# Altium footprint library WBDesign.PcbLib: 9 footprints
Each footprint in its own frame and in the unit in brackets; x right, y up, seen from the top. Pads: shape width x height; smd on the part's side, far side on the other; paste and mask are expansions set on the pad; w line width, h text height; cw(c..) or ccw(c..) is an arc to the next point about the centre after c.
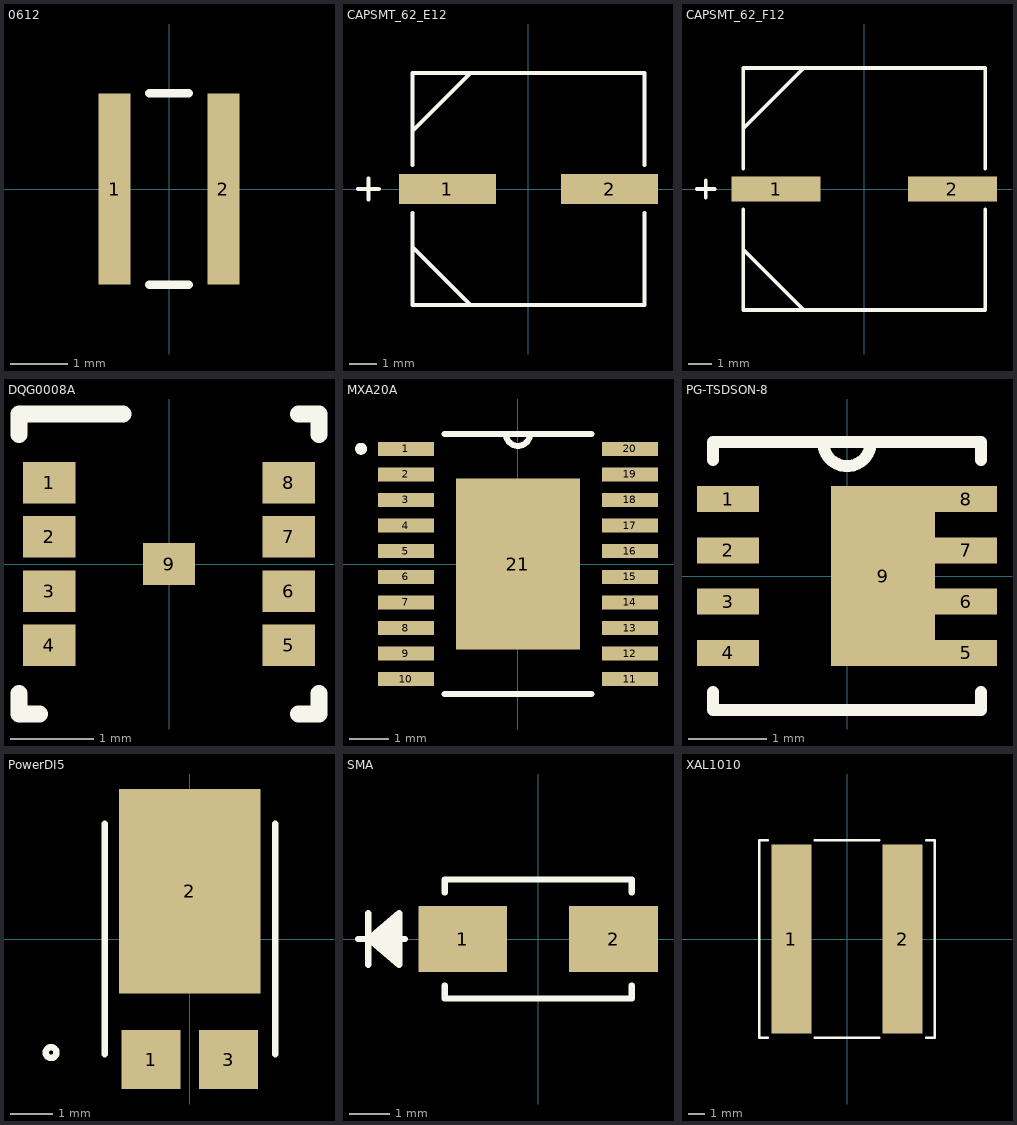
[diagram p0: the footprints below, top view; thin cyan lines are the x and y axes]

## 0612 [mil]
pads (2):
  rect 22x132 smd: 1(-37.5,0) 2(37.5,0)
Top Overlay:
  lines w6: -13.4,-66 13.4,-66 ; -13.4,66 13.4,66
3D body "0612.stp": height 20, standoff 0, extent -34.5,-66 34.5,66

## CAPSMT_62_E12 [mil]
pads (2):
  rect 140x43 smd: 1(-117,0) 2(117,0)
Top Overlay:
  lines w6: -246,0 -216,0 ; -231,-15 -231,15 ; -167.5,-83.75 -83.75,-167.5 ; -167.5,-34.6 -167.5,-167.5 167.5,-167.5 167.5,-34.6 ; -167.5,34.6 -167.5,167.5 167.5,167.5 167.5,34.6 ; -167.5,83.75 -83.75,167.5
3D body "CAPSMT_62_E12.stp": height 474, standoff 0, extent -181,-167.5 181,167.5

## CAPSMT_62_F12 [mil]
pads (2):
  rect 152x43 smd: 1(-150.5,0) 2(150.5,0)
Top Overlay:
  lines w6: -285.5,0 -255.5,0 ; -270.5,-15 -270.5,15 ; -206.5,-103.25 -103.25,-206.5 ; -206.5,-34.6 -206.5,-206.5 206.5,-206.5 206.5,-34.6 ; -206.5,34.6 -206.5,206.5 206.5,206.5 206.5,34.6 ; -206.5,103.25 -103.25,206.5
3D body "CAPSMT_62_F12.stp": height 502, standoff 0, extent -220.5,-206.5 220.5,206.5

## DQG0008A [mm]
pads (9):
  rect 0.63x0.5 smd paste-0.302 mask+0.051: 1(-1.435,0.975) 2(-1.435,0.325) 3(-1.435,-0.325) 4(-1.435,-0.975) 5(1.435,-0.975) 6(1.435,-0.325) 7(1.435,0.325) 8(1.435,0.975) 9(0,0)
Top Overlay:
  lines w0.2: -1.8,-1.55 -1.8,-1.8 -1.55,-1.8 ; -1.8,1.55 -1.8,1.8 -0.55,1.8 ; 1.55,-1.8 1.8,-1.8 1.8,-1.55 ; 1.55,1.8 1.8,1.8 1.8,1.55
Top Paste:
  region: -0.46,0.125 -0.46,1.02 0.985,1.02 0.985,0.125
  region: 0.985,-0.125 -0.46,-0.125 -0.46,-1.02 0.985,-1.02
  region: -1.66,0.805 -1.66,1.145 -1.21,1.145 -1.21,0.805
  region: -1.66,0.155 -1.66,0.495 -1.21,0.495 -1.21,0.155
  region: -1.66,-0.495 -1.66,-0.155 -1.21,-0.155 -1.21,-0.495
  region: -1.66,-1.145 -1.66,-0.805 -1.21,-0.805 -1.21,-1.145
  region: 1.21,-1.145 1.21,-0.805 1.66,-0.805 1.66,-1.145
  region: 1.21,-0.495 1.21,-0.155 1.66,-0.155 1.66,-0.495
  region: 1.21,0.155 1.21,0.495 1.66,0.495 1.66,0.155
  region: 1.21,0.805 1.21,1.145 1.66,1.145 1.66,0.805
Top Solder:
  region: -0.57,1.275 -0.56,1.276 1.34,1.276 1.35,1.275 1.359,1.272 1.368,1.267 1.376,1.261 1.382,1.253 1.387,1.244 1.39,1.235 1.391,1.225 1.391,-1.225 1.39,-1.235 1.387,-1.244 1.382,-1.253 1.376,-1.261 1.368,-1.267 1.359,-1.272 1.35,-1.275 1.34,-1.276 -0.56,-1.276 -0.57,-1.275 -0.579,-1.272 -0.588,-1.267 -0.596,-1.261 -0.602,-1.253 -0.607,-1.244 -0.61,-1.235 -0.611,-1.225 -0.611,1.225 -0.61,1.235 -0.607,1.244 -0.602,1.253 -0.596,1.261 -0.588,1.267 -0.579,1.272
3D body: height 0.25, standoff 0, extent 0,0 0.254,0.254

## MXA20A [mil]
pads (21):
  rect 56x14 smd: 1(-112,115.16) 2(-112,89.57) 3(-112,63.98) 4(-112,38.39) 5(-112,12.8) 6(-112,-12.8) 7(-112,-38.39) 8(-112,-63.98) 9(-112,-89.57) 10(-112,-115.16) 11(112,-115.16) 12(112,-89.57) 13(112,-63.98) 14(112,-38.39) 15(112,-12.8) 16(112,12.8) 17(112,38.39) 18(112,63.98) 19(112,89.57) 20(112,115.16)
  rect 124x171 smd: 21(0,0)
Top Overlay:
  circle w6: c-156.8,115.16 r3
  lines w6: -73.51,-130 73.51,-130 ; -73.51,130 73.51,130 ; -12,130 ccw(c0,130) 12,130
3D body "MXA20A.stp": height 43.1, standoff 0, extent -126,-130 126,130

## PG-TSDSON-8 [mil]
pads (9):
  rect 31x13 smd paste-6.5: 1(-59.5,38.39) 2(-59.5,12.8) 3(-59.5,-12.8) 4(-59.5,-38.39) 5(59.5,-38.39) 6(59.5,-12.8) 7(59.5,12.8) 8(59.5,38.39)
  rect 52x90 smd paste-26 mask+1: 9(18,0)
Top Layer:
  region: -75,0
Top Overlay:
  lines w6: -67,-57.99 -67,-67 67,-67 67,-57.99 ; -67,57.99 -67,67 67,67 67,57.99 ; -12,67 ccw(c0,67) 12,67
Top Paste:
  region: -44,44.89 -75,44.89 -75,31.89 -44,31.89
  region: -44,19.3 -75,19.3 -75,6.3 -44,6.3
  region: -44,-6.3 -75,-6.3 -75,-19.3 -44,-19.3
  region: -44,-31.89 -75,-31.89 -75,-44.89 -44,-44.89
  region: 75,-31.89 44,-31.89 44,-44.89 75,-44.89
  region: 75,-6.3 44,-6.3 44,-19.3 75,-19.3
  region: 75,19.3 44,19.3 44,6.3 75,6.3
  region: 75,44.89 44,44.89 44,31.89 75,31.89
  region: -75,0
Top Solder:
  region: -75,0
3D body: height 10, standoff 0, extent 0,0 10,10

## PowerDI5 [mil]
pads (3):
  rect 55x55 smd: 1(-36.22,-112.5) 3(36.22,-112.5)
  rect 132x191 smd: 2(0,44.5)
Top Overlay:
  circle w6: c-129.5,-106 r5
  lines w6: -79.5,-107.5 -79.5,107.5 ; 79.5,-107.5 79.5,107.5
3D body: height 10, standoff 0, extent 0,0 10,10

## SMA [mil]
pads (2):
  rect 86x64 smd: 1(-73,0) 2(73,0)
Top Overlay:
  lines w6: -174.5,0 -129.1,0 ; -164.5,-25 -164.5,25 ; -134.5,-20 -164.5,0 ; -134.5,-15 -164.5,0 ; -134.5,-10 -164.5,0 ; -134.5,-5 -164.5,0 ; -134.5,5 -164.5,0 ; -134.5,10 -164.5,0 ; -134.5,15 -164.5,0 ; -134.5,20 -164.5,0 ; -90.5,-45.1 -90.5,-57.5 90.5,-57.5 90.5,-45.1 ; -90.5,45.1 -90.5,57.5 90.5,57.5 90.5,45.1 ; -164.5,0 -134.5,25 -134.5,-25 -164.5,0
3D body: height 10, standoff 0, extent 0,0 10,10

## XAL1010 [mil]
pads (2):
  rect 94x445 smd: 1(-131,0) 2(131,0)
Top Overlay:
  lines w6: -186.46,-232.5 -207,-232.5 -207,232.5 -186.46,232.5 ; -75.54,-232.5 75.54,-232.5 ; -75.54,232.5 75.54,232.5 ; 186.46,-232.5 207,-232.5 207,232.5 186.46,232.5
3D body "XAL1010.stp": height 406, standoff 0, extent -219,-232.5 219,232.5